# Altium footprint library ABLS-25.000MHZ-20-D2YF-T.PcbLib: 1 footprints
Each footprint in its own frame and in the unit in brackets; x right, y up, seen from the top. Pads: shape width x height; smd on the part's side, far side on the other; paste and mask are expansions set on the pad; w line width, h text height; cw(c..) or ccw(c..) is an arc to the next point about the centre after c.
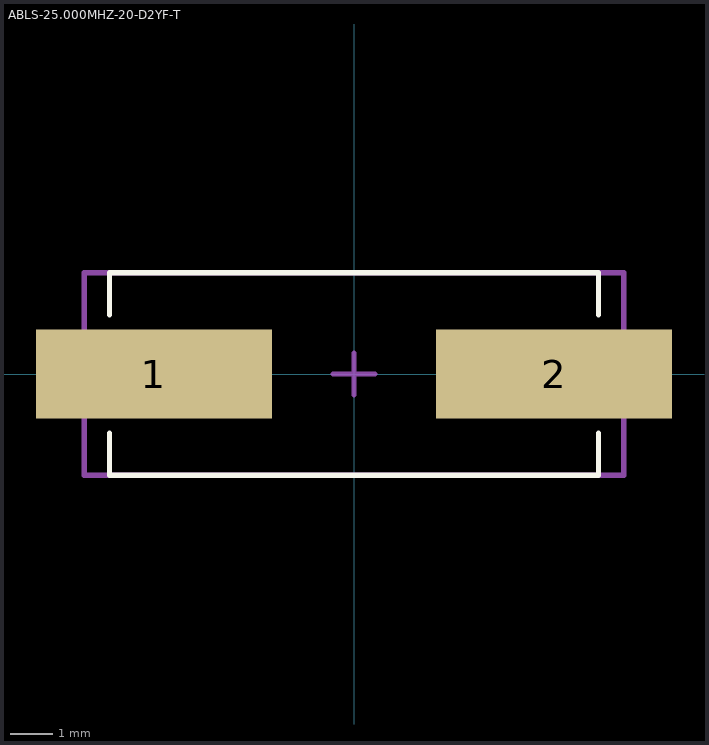
[diagram p0: the footprint, top view; thin cyan lines are the x and y axes]

## ABLS-25.000MHZ-20-D2YF-T [mm]
pads (2):
  rect 5.6x2.1 smd mask+0.051: 1(-4.75,0) 2(4.75,0)
Top Overlay:
  lines w0.127: -5.8,-1.4 -5.8,-2.4 5.8,-2.4 5.8,-1.4 ; -5.8,1.4 -5.8,2.4 5.8,2.4 5.8,1.4
Mechanical 13 (Mech13):
  lines w0.127: -6.4,-2.4 -6.4,2.4 6.4,2.4 6.4,-2.4 -6.4,-2.4
Mechanical 15:
  lines w0.127: -0.5,0 0,0 ; 0,-0.5 0,0 ; 0,0.5 0,0 ; 0.5,0 0,0
3D body "ABLS.STEP": height 4.16, standoff 0, extent -6.35,-2.349 6.35,2.349